# Altium schematic symbol library BZT585B3V3T-7.SchLib: 1 symbol
Pins are listed as number, name and electrical type; pins without a type are passive.

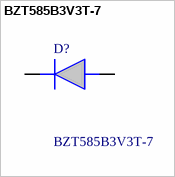
[diagram p0: symbol BZT585B3V3T-7]

## BZT585B3V3T-7
designator D?
Diodes Inc BZT585B3V3T-7 Zener Diode, 3.3V +/-2% 350 mW SMT 2-Pin SOD-523; Manufacturer_Name: Diodes Incorporated; Geometry.Height: 0.65mm; Mouser Part Number: 621-BZT585B3V3T-7; Mouser Price/Stock: https://www.mouser.co.uk/ProductDetail/Diodes-Incorporated/BZT585B3V3T-7?qs=bLNvM6dkO6SLQKLMisQhRA%3D%3D; Manufacturer_Part_Number: BZT585B3V3T-7; Datasheet Link: https://www.diodes.com//assets/Datasheets/BZT585BxVxT.pdf
footprint SODFL1608X65N
pins: 1 K, 2 A